# Altium integrated library Fuses.IntLib: 2 symbols
Pins are listed as number, name and electrical type; pins without a type are passive.

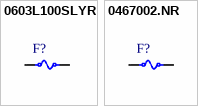
[diagram p0: symbols 0603L100SLYR to 0467002.NR]

## 0603L100SLYR
designator F?  (value not drawn)
PTC Resettable Fuse 1A(hold) 1.8A(trip) 6VDC 50A 0.6W 0.3s 0.04Ohm SMD Solder Pad 0603 T/R; Manufacturer Part Number: 0603L100SLYR; Manufacturer: Littelfuse Inc; Supplier: DigiKey; Supplier Part Number: F5761CT-ND; Package/Case: 0603 (1608 Metric); Value: *
footprint FUSC1608X31N
pins: 1, 2

## 0467002.NR
designator F?  (value not drawn)
Electric Fuse, Very Fast Blow, 2A, 32VAC, 32VDC, 35A (IR), Surface Mount, 0603; Manufacturer Part Number: 0467002.NR; Manufacturer: Littelfuse Inc; Supplier: DigiKey; Supplier Part Number: F1397CT-ND; Package/Case: 0603 (1608 Metric); Value: *
footprint FUSC1608X31N
pins: 1, 2